# Altium schematic symbol library SCH - CONNECTORS - 6 PIN STAGGERED.SCHLIB: 1 symbol
Pins are listed as number, name and electrical type; pins without a type are passive.

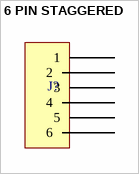
[diagram p0: symbol 6 PIN STAGGERED]

## 6 PIN STAGGERED
designator J?
pins: 1, 2, 3, 4, 5, 6